# EAGLE library part DS1302 (library MyLibrary)
Clock IC
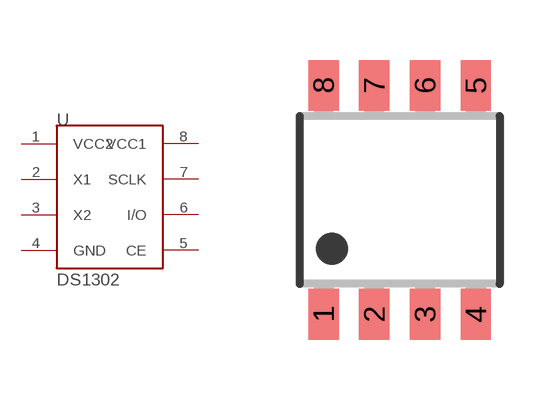
[diagram p4: symbol with the pads of SOP8; footprint SOP8]

Designator prefix U

## DS1302  [SOP8]
1  VCC2
2  X1
3  X2
4  GND
5  CE
6  I/O
7  SCLK
8  VCC1

## Footprint SOP8 (pad centres in mm)
Small Outline Package 8 8P2S-A Plastic 8pin 225mil SOP Source: Mitsubishi M5218AL/P/FP
smd 0.76 x 1.27: 1 -1.905,-2.86; 2 -0.635,-2.86; 3 0.635,-2.86; 4 1.905,-2.86; 5 1.905,2.86; 6 0.635,2.86; 7 -0.635,2.86; 8 -1.905,2.86